# Altium footprint library Movandi_1.PcbLib: 8 footprints
Each footprint in its own frame and in the unit in brackets; x right, y up, seen from the top. Pads: shape width x height; smd on the part's side, far side on the other; paste and mask are expansions set on the pad; w line width, h text height; cw(c..) or ccw(c..) is an arc to the next point about the centre after c.
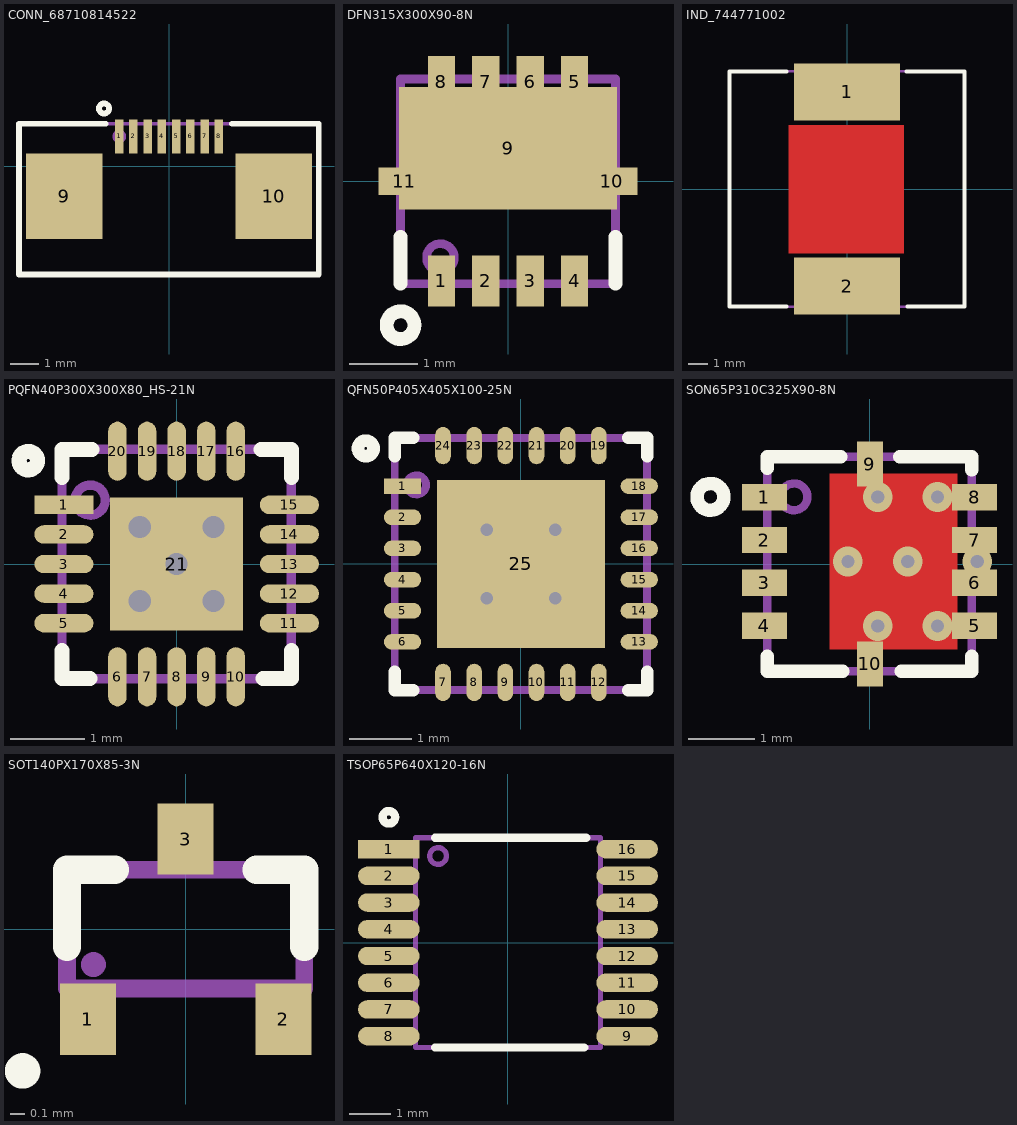
[diagram p0: the footprints below, top view; thin cyan lines are the x and y axes]

## CONN_68710814522 [mm]
height 2.1
pads (10):
  rect 0.3x1.2 smd mask+0.076: 1(-1.75,1.05) 2(-1.25,1.05) 3(-0.75,1.05) 4(-0.25,1.05) 5(0.25,1.05) 6(0.75,1.05) 7(1.25,1.05) 8(1.75,1.05)
  rect 2.7x3 smd mask+0.076: 9(-3.68,-1.05) 10(3.68,-1.05)
Top Overlay:
  circle w0.203: c-2.286,2.032 r0.178
  lines w0.203: -2.227,1.493 -5.275,1.493 -5.275,-3.807 5.266,-3.807 5.266,1.493 2.218,1.493
Outline:
  text "'.Designator'" at 0,0 h1.02
Courtyard Top:
  circle w0.127: c-1.75,1.05 r0.178
  lines w0.127: -5.275,-3.807 5.275,-3.807 5.275,1.493 -5.275,1.493 -5.275,-3.807
3D body: height 2.15, standoff 0.05, extent -5.2,-3.816 5.2,1.284

## DFN315X300X90-8N [mm]
height 0.9
pads (11):
  rect 0.4x0.75 smd mask+0.076: 1(-0.975,-1.46) 2(-0.325,-1.46) 3(0.325,-1.46) 4(0.975,-1.46) 5(0.975,1.461) 6(0.325,1.461) 7(-0.325,1.461) 8(-0.975,1.461)
  rect 3.2x1.8 smd paste-1.689 mask+0: 9(0,0.485)
  rect 0.75x0.4 smd mask+0.076: 10(1.524,0) 11(-1.524,0)
Top Overlay:
  circle w0.203: c-1.575,-2.108 r0.203
  lines w0.203: -1.575,-0.813 -1.575,-1.5 ; 1.575,-1.5 1.575,-0.813 ; -1.575,-1.5 -1.575,-1.5 ; 1.575,-0.813 1.575,-0.813
Top Paste:
  region: 0.116,1.272 0.116,-0.357 1.617,-0.357 1.617,1.272
  region: -1.586,1.272 -1.586,-0.357 -0.084,-0.357 -0.084,1.272
  region: 0.116,1.272 0.116,-0.357 1.617,-0.357 1.617,1.272
  region: -1.586,1.272 -1.586,-0.357 -0.084,-0.357 -0.084,1.272
  region: 0.116,1.272 0.116,-0.357 1.617,-0.357 1.617,1.272
  region: -1.586,1.272 -1.586,-0.357 -0.084,-0.357 -0.084,1.272
  region: -1.14,1.905 -1.14,1.016 -0.81,1.016 -0.81,1.905
  region: -0.487,1.905 -0.487,1.016 -0.157,1.016 -0.157,1.905
  region: 0.155,1.905 0.155,1.016 0.486,1.016 0.486,1.905
  region: 0.811,1.905 0.811,1.016 1.141,1.016 1.141,1.905
Top Solder:
  region: -1.14,1.905 -1.14,1.016 -0.81,1.016 -0.81,1.905
  region: -0.48,1.905 -0.48,1.016 -0.149,1.016 -0.149,1.905
  region: 0.181,1.905 0.181,1.016 0.511,1.016 0.511,1.905
  region: 0.841,1.905 0.841,1.016 1.171,1.016 1.171,1.905
Outline:
  text "'.Designator'" at 0.005,0 h1.02
Courtyard Top:
  circle w0.127: c-0.991,-1.118 r0.203
  lines w0.127: -1.575,-1.5 1.575,-1.5 1.575,1.5 -1.575,1.5 -1.575,-1.5
3D body: height 0.8, standoff 0, extent -1.644,-1.65 1.656,1.65

## IND_744771002 [mm]
height 6
pads (2):
  rect 5.4x2.9 smd mask+0.102: 1(0,4.95) 2(0,-4.95)
Top Layer:
  pour cut-out: -2.972,3.251 2.896,3.251 2.896,-3.277 -2.972,-3.277
Top Overlay:
  lines w0.203: -3.073,-6 -6,-6 -6,6 -3.073,6 ; 3.023,6 6,6 6,-6 3.073,-6
Outline:
  text "'.Designator'" at -0.051,-0.051 h1.52
Courtyard Top:
  lines w0.127: -6,-6 6,-6 6,6 -6,6 -6,-6
3D body: height 5.66, standoff 0, extent -6.051,-6.051 5.949,5.949

## PQFN40P300X300X80_HS-21N [mm] "PQFN, 20-Leads, Body 3.00x3.00mm, Pitch 0.40mm, Thermal Pad 1.70x1.70mm, IPC Medium Density"
height 0.8
pads (21):
  rect 0.8x0.25 smd mask+0.051: 1(-1.525,0.8)
  oval 0.8x0.25 smd mask+0.051: 2(-1.525,0.4) 3(-1.525,0) 4(-1.525,-0.4) 5(-1.525,-0.8) 11(1.525,-0.8) 12(1.525,-0.4) 13(1.525,0) 14(1.525,0.4) 15(1.525,0.8)
  oval 0.25x0.8 smd mask+0.051: 6(-0.8,-1.525) 7(-0.4,-1.525) 8(0,-1.525) 9(0.4,-1.525) 10(0.8,-1.525) 16(0.8,1.525) 17(0.4,1.525) 18(0,1.525) 19(-0.4,1.525) 20(-0.8,1.525)
  rect 1.8x1.8 smd paste-5: 21(0,0)
via -0.5,-0.5 diameter 0.55 hole 0.3
via 0.5,-0.5 diameter 0.55 hole 0.3
via 0.5,0.5 diameter 0.55 hole 0.3
via -0.5,0.5 diameter 0.55 hole 0.3
via 0,0 diameter 0.55 hole 0.3
Top Overlay:
  circle w0.203: c-2.007,1.397 r0.125
  lines w0.203: -1.55,-1.168 -1.55,-1.55 -1.168,-1.55 ; -1.55,1.168 -1.55,1.55 -1.143,1.55 ; 1.143,1.55 1.55,1.55 1.55,1.168 ; 1.168,-1.55 1.55,-1.55 1.55,-1.168
Top Paste:
  rectangle: -0.88,0.15 -0.15,0.88
  region: 0.88,0.88 0.15,0.88 0.15,0.15 0.88,0.15
  rectangle: -0.88,-0.88 -0.15,-0.15
  region: 0.88,-0.15 0.15,-0.15 0.15,-0.88 0.88,-0.88
Outline:
  text "'.Designator'" at 0,0 h1.02
Courtyard Top:
  circle w0.127: c-1.168,0.864 r0.203
  lines w0.127: -1.55,-1.55 -1.55,1.55 1.55,1.55 1.55,-1.55 -1.55,-1.55
3D body: height 0.8, standoff 0.1, extent -1.55,-1.55 1.55,1.55

## QFN50P405X405X100-25N [mm]
height 1
pads (25):
  rect 0.6x0.25 smd: 1(-1.9,1.25)
  oval 0.6x0.25 smd: 2(-1.9,0.75) 3(-1.9,0.25) 4(-1.9,-0.25) 5(-1.9,-0.75) 6(-1.9,-1.25) 13(1.9,-1.25) 14(1.9,-0.75) 15(1.9,-0.25) 16(1.9,0.25) 17(1.9,0.75) 18(1.9,1.25)
  oval 0.25x0.6 smd: 7(-1.25,-1.9) 8(-0.75,-1.9) 9(-0.25,-1.9) 10(0.25,-1.9) 11(0.75,-1.9) 12(1.25,-1.9) 19(1.25,1.9) 20(0.75,1.9) 21(0.25,1.9) 22(-0.25,1.9) 23(-0.75,1.9) 24(-1.25,1.9)
  rect 2.7x2.7 smd: 25(0,0)
via 0.55,-0.55 diameter 0.5 hole 0.2
via -0.55,-0.55 diameter 0.5 hole 0.2
via 0.55,0.55 diameter 0.5 hole 0.2
via -0.55,0.55 diameter 0.5 hole 0.2
Top Overlay:
  circle w0.203: c-2.489,1.854 r0.125
  lines w0.203: -2.025,-1.727 -2.025,-2.025 -1.726,-2.025 ; -2.025,1.726 -2.025,2.025 -1.726,2.025 ; 1.727,-2.025 2.025,-2.025 2.025,-1.727 ; 1.727,2.025 2.025,2.025 2.025,1.726
Outline:
  text "'.Designator'" at 0,0 h1.02
Courtyard Top:
  circle w0.127: c-1.676,1.27 r0.152
  lines w0.127: -2.025,-2.025 2.025,-2.025 2.025,2.025 -2.025,2.025 -2.025,-2.025
3D body: height 1, standoff 0.1, extent -2.025,-2.025 2.025,2.025

## SON65P310C325X90-8N [mm]
height 0.9
pads (10):
  rect 0.68x0.4 smd paste-0.327 mask+0.051: 1(-1.59,1.013) 2(-1.59,0.363) 3(-1.59,-0.287) 4(-1.59,-0.937) 5(1.59,-0.937) 6(1.59,-0.287) 7(1.59,0.363) 8(1.59,1.013)
  rect 0.4x0.68 smd paste-0.327 mask+0.051: 9(0.007,1.511) 10(0.007,-1.511)
via 1.63,0.038 diameter 0.45 hole 0.2
via -0.327,0.038 diameter 0.45 hole 0.2
via 0.577,0.038 diameter 0.45 hole 0.2
via 0.125,1.013 diameter 0.45 hole 0.2
via 1.03,1.013 diameter 0.45 hole 0.2
via 0.125,-0.937 diameter 0.45 hole 0.2
via 1.03,-0.937 diameter 0.45 hole 0.2
Top Layer:
  region: 1.33,-1.287 1.33,1.363 -0.602,1.363 -0.602,-1.287
Top Overlay:
  circle w0.203: c-2.408,1.016 r0.203
  lines w0.203: -1.55,-1.397 -1.55,-1.625 -0.407,-1.625 ; -1.55,1.448 -1.55,1.625 -0.432,1.625 ; 0.457,1.626 1.55,1.626 1.55,1.422 ; 0.482,-1.625 1.55,-1.625 1.55,-1.397
Top Paste:
  region: 0.103,1.363 -0.602,1.363 -0.602,0.238 0.103,0.238
  region: 0.995,1.363 0.29,1.363 0.29,0.238 0.995,0.238
  region: 0.995,-0.162 0.29,-0.162 0.29,-1.287 0.995,-1.287
  region: 0.103,-0.162 -0.602,-0.162 -0.602,-1.287 0.103,-1.287
  region: 1.85,1.183 1.33,1.183 1.33,0.843 1.85,0.843
  region: 1.85,0.533 1.33,0.533 1.33,0.193 1.85,0.193
  region: 1.85,-0.117 1.33,-0.117 1.33,-0.457 1.85,-0.457
  region: 1.85,-0.767 1.33,-0.767 1.33,-1.107 1.85,-1.107
  region: -1.315,-0.767 -1.835,-0.767 -1.835,-1.107 -1.315,-1.107
  region: -1.315,-0.117 -1.835,-0.117 -1.835,-0.457 -1.315,-0.457
  region: -1.315,0.533 -1.835,0.533 -1.835,0.193 -1.315,0.193
  region: -1.315,1.183 -1.835,1.183 -1.835,0.843 -1.315,0.843
Top Solder:
  region: 1.182,-1.287 1.182,1.363 -0.602,1.363 -0.602,-1.287
Outline:
  text "'.Designator'" at 0.007,-0.025 h1.02
Courtyard Top:
  circle w0.127: c-1.143,1.016 r0.203
  lines w0.127: -1.55,-1.625 -1.55,1.625 1.55,1.625 1.55,-1.625 -1.55,-1.625
3D body: height 0.9, standoff 0, extent -1.642,-1.629 1.658,1.681

## SOT140PX170X85-3N [mm]
height 0.8
pads (3):
  rect 0.4x0.51 smd mask+0.076: 1(-0.7,-0.645) 2(0.7,-0.645) 3(0,0.645)
Top Overlay:
  circle w0.203: c-1.168,-1.016 r0.025
  lines w0.203: -0.85,-0.127 -0.85,0.425 -0.508,0.425 ; 0.508,0.425 0.85,0.425 0.85,-0.127
Outline:
  text "'.Designator'" at 0,0 h1.02
Courtyard Top:
  circle w0.127: c-0.66,-0.254 r0.025
  lines w0.127: -0.85,-0.425 0.85,-0.425 0.85,0.425 -0.85,0.425 -0.85,-0.425
3D body: height 0.8, standoff 0, extent -0.85,-0.425 0.85,0.425

## TSOP65P640X120-16N [mm] "TSOP, 16-Leads, Body 5.00x4.40mm, Pitch 0.65mm, IPC Medium Density"
height 1.2
pads (16):
  rect 1.5x0.45 smd mask+0.051: 1(-2.9,2.275)
  oval 1.5x0.45 smd mask+0.051: 2(-2.9,1.625) 3(-2.9,0.975) 4(-2.9,0.325) 5(-2.9,-0.325) 6(-2.9,-0.975) 7(-2.9,-1.625) 8(-2.9,-2.275) 9(2.9,-2.275) 10(2.9,-1.625) 11(2.9,-0.975) 12(2.9,-0.325) 13(2.9,0.325) 14(2.9,0.975) 15(2.9,1.625) 16(2.9,2.275)
Top Overlay:
  circle w0.203: c-2.9,3.05 r0.152
  lines w0.203: -1.778,-2.55 1.854,-2.55 ; -1.778,2.55 1.905,2.55
Outline:
  text "'.Designator'" at 0,0 h1.02
Courtyard Top:
  circle w0.127: c-1.702,2.108 r0.203
  lines w0.127: -2.25,-2.55 2.25,-2.55 2.25,2.55 -2.25,2.55 -2.25,-2.55
3D body: height 1.2, standoff 0, extent -3.2,-2.55 3.2,2.55